# Altium integrated library WATERALARM_V1.1.IntLib: 17 symbols
Pins are listed as number, name and electrical type; pins without a type are passive.

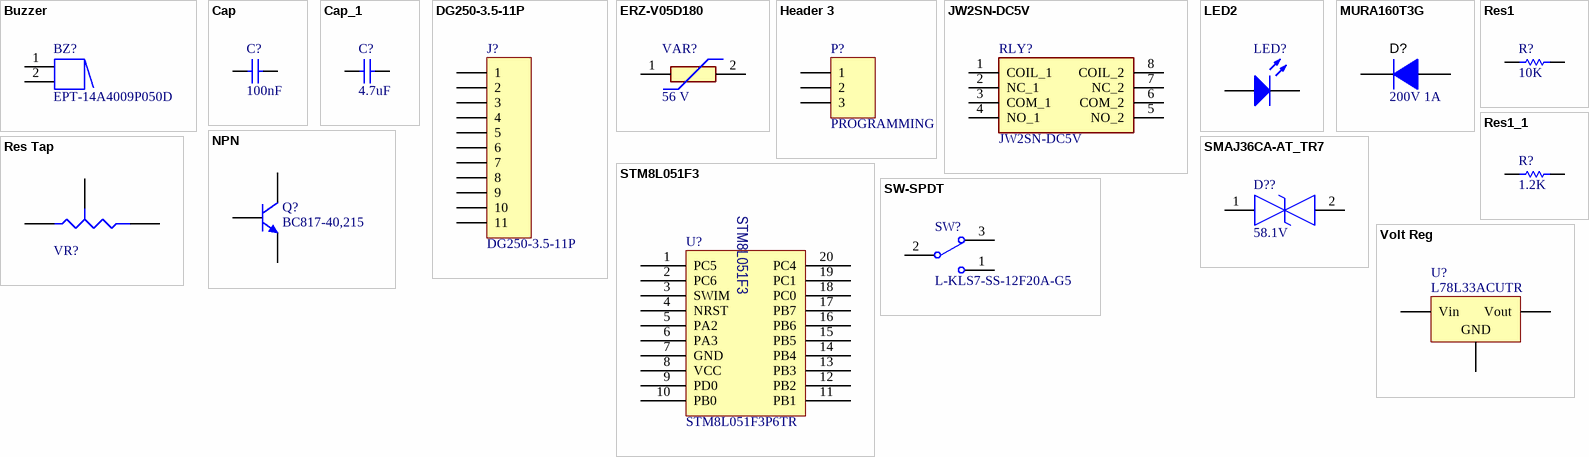
[diagram p0: symbols Buzzer to Volt Reg]

## Buzzer
designator BZ?, comment EPT-14A4009P050D
BUZZER PIEZO W/O CIRCUIT 9V 4-KHZ THT; Manufacturer: SANCO; Manufacturer Part Number: EPT-14A4009P050D
footprint ABSM-1574 (Magnetic Transducer Buzzer)
pins: 1, 1A, 2, 2A
1 alternate drawing of the same symbol

## Cap
designator C?, comment value 100nF  (hidden comment: CL21B104KBCNNNL)
MLCC (2012) 0805 100nF 50VDC ±10% X7R; Manufacturer: SAMSUNG; Manufacturer Part Number: CL21B104KBCNNNL
footprint RAD-0.3 (Radial Cap, Thru-Hole; 2 Leads; 0.3 in Pin Spacing)
simulation model CAP (Capacitor)
signal-integrity model Cap
pins: 1, 2

## Cap_1
designator C?, comment value 4.7uF  (hidden comment: CL21A475KBQNNNE)
MLCC (2012) 0805 4.7uF 50VDC ±10% X5R; Manufacturer: SAMSUNG; Manufacturer Part Number: CL21A475KBQNNNE
footprint RAD-0.3 (Radial Cap, Thru-Hole; 2 Leads; 0.3 in Pin Spacing)
simulation model CAP (Capacitor)
signal-integrity model Cap
pins: 1, 2

## DG250-3.5-11P
designator J?
TERM.BLK.3.50MM 11P PCB TYPE GRAY GAOSONG; Manufacturer: DEGSON/GAOSONG; Manufacturer Part Number: DG250-3.5-11P; Value: DG250-3.5-11P
footprint 11 pin Terminal sping loaded
signal-integrity model Connector
pins: 1, 2, 3, 4, 5, 6, 7, 8, 9, 10, 11

## ERZ-V05D180
designator VAR?, comment Varistor Voltage: 56 V  (hidden comment: ERZ-V05D560)
56 V 250 A Varistor 1 Circuit Through Hole Disc 7mm; Manufacturer: Panasonic; Manufacturer Part Number: ERZ-V05D560; Value: ERZ-V05D560
footprint ERZV05D180
pins: 1, 2

## Header 3
designator P?, comment PROGRAMMING  (no BOM)
Header, 3-Pin
footprint HDR1X3
signal-integrity model Connector
pins: 1, 2, 3

## JW2SN-DC5V
designator RLY?
Relay or Contactor; Manufacturer_Name: Panasonic; Datasheet Link: https://industry.panasonic.com/ac/cdn/e/control/relay/power/catalog/mech_eng_jw.pdf; Height: 20mm; Manufacturer_Part_Number: JW2SN-DC5V; Mouser Part Number: 769-JW2SN-DC5V; Mouser Price/Stock: https://www.mouser.co.uk/ProductDetail/Panasonic-Industrial-Devices/JW2SN-DC5V?qs=HLLy2pIPwuus9vgayzgjwA%3D%3D; Arrow Part Number: JW2SN-DC5V; Arrow Price/Stock: https://www.arrow.com/en/products/jw2sn-dc5v/panasonic?utm_currency=USD&region=nac
footprint JW2SNDC5V
pins: 1 COIL_1, 2 NC_1, 3 COM_1, 4 NO_1, 5 NO_2, 6 COM_2, 7 NC_2, 8 COIL_2

## LED2
designator LED?, comment 3R4HD-7-TB  (value not drawn)
LED 3MM RED 30mcd 35° RED/DIFFUSED; Manufacturer: STRONG BASE; Manufacturer Part Number: 3R4HD-7-TB
footprint 3.2X1.6X1.1 (SMT LED; 2 Flat Leads)
simulation model LED2 (Diode)
pins: 1 A, 2 K

## MURA160T3G
designator D?, comment value 200V 1A  (hidden comment: US1D_R1_00001)
DIODE U.FAST SINGLE 1A 200V DO214AC (SMA) SMT; Manufacturer: ON Semiconductor; Manufacturer Part Number: US1D_R1_00001; ComponentLink1Description: Datasheet link; ComponentLink1URL: http://www.onsemi.com/pub_link/Collateral/MURA160T3-D.PDF
signal-integrity model Diode
simulation model Dmura160t3
footprint SMA
pins: 1 K, 2 A

## NPN
designator Q?, comment BC817-40,215
TRANSISTOR DIS.500mA 45V NPN SOT23 GEN. SMT; Manufacturer: NXP; Manufacturer Part Number: BC817-40,215
footprint TO-226-AA (TO, Flat Index; 3 In-Line, Axial Leads; Body Dia. 4.8mm; Leads 0.55 x 0.51 mm (max))
simulation model NPN
signal-integrity model NPN
pins: 1 C, 2 B, 3 E

## Res1
designator R?, comment value 10K  (hidden comment: 0805S8J0103T5E)
RES.(2012) 0805 10K Ohms 5% 1/8W-S 100PPM; Manufacturer: ROYALOHM; Manufacturer Part Number: 0805S8J0103T5E
footprint AXIAL-0.3 (Axial Device, Thru-Hole; 2 Leads; 0.3 in Pin Spacing)
simulation model RESISTOR (Resistor)
signal-integrity model Res
pins: 1, 2

## Res1_1
designator R?, comment value 1.2K  (hidden comment: RI1210L122JT)
RES.(3225) 1210 1.2K Ohms 5% 1/2W 200PPM; Manufacturer: HOTTECH; Manufacturer Part Number: RI1210L122JT
footprint AXIAL-0.3 (Axial Device, Thru-Hole; 2 Leads; 0.3 in Pin Spacing)
simulation model RESISTOR (Resistor)
signal-integrity model Res
pins: 1, 2

## Res Tap
designator VR?, comment L-KLS4-WH06-2A-103  (value not drawn)
TRIMPOT CARBON V 6MM 10K; Manufacturer: KLS ELECTRONIC; Manufacturer Part Number: L-KLS4-WH06-2A-103; Value: 10K
footprint VR3 (Thru-Hole; 3 Leads)
simulation model POT (Potentiometer)
signal-integrity model Res Tap
pins: 1 A, 2 B, 3 TAP

## SMAJ36CA-AT_TR7
designator D??, comment value 58.1V  (hidden comment: SMAJ36CA/TR7)
58.1V Clamp 6.9A Ipp Tvs Diode Surface Mount DO-214AC (SMA); Manufacturer: YAGEO; Height: 2.5mm; Manufacturer Part Number: SMAJ36CA/TR7
footprint DIONM5127X250N
pins: 1, 2

## STM8L051F3
designator U?, comment STM8L051F3P6TR
IC-8L051 MCU 8BIT 8K FLASH TSSOP20; Manufacturer: STM; Manufacturer Part Number: STM8L051F3P6TR
pins: 1 PC5, 2 PC6, 3 SWIM, 4 NRST, 5 PA2, 6 PA3, 7 GND, 8 VCC, 9 PD0, 10 PB0, 11 PB1, 12 PB2, 13 PB3, 14 PB4, 15 PB5, 16 PB6, 17 PB7, 18 PC0, 19 PC1, 20 PC4

## SW-SPDT
designator SW?, comment L-KLS7-SS-12F20A-G5
SWITCH SLIDE 1P2T 500mA 50V On-On THT V/T; Manufacturer: KLS ELECTRONIC; Manufacturer Part Number: L-KLS7-SS-12F20A-G5
footprint TL36WW15050 (Switch; 4 Leads)
pins: 1, 2, 3

## Volt Reg
designator U?, comment L78L33ACUTR
IC-78L33 VOLTAGE REGULATOR 3.3V 100mA SOT89 ST; Manufacturer: STM; Manufacturer Part Number: L78L33ACUTR; Value: L78L33ACUTR
footprint D2PAK_N (D2-PAK, 4-Leads, Body 8.8x10.4mm, Pitch 2.54mm, Lead Span 15.1mm, IPC Medium Density)
footprint D2PAK_L (D2-PAK, 4-Leads, Body 8.8x10.4mm, Pitch 2.54mm, Lead Span 15.1mm, IPC High Density)
footprint D2PAK_M (D2-PAK, 4-Leads, Body 8.8x10.4mm, Pitch 2.54mm, Lead Span 15.1mm, IPC Low Density)
pins: 1 Vin, 2 GND, 3 Vout